# Altium footprint library NEW.PcbLib: 69 footprints (part 4 of 5)
Each footprint in its own frame and in the unit in brackets; x right, y up, seen from the top. Pads: shape width x height; smd on the part's side, far side on the other; paste and mask are expansions set on the pad; w line width, h text height; cw(c..) or ccw(c..) is an arc to the next point about the centre after c.
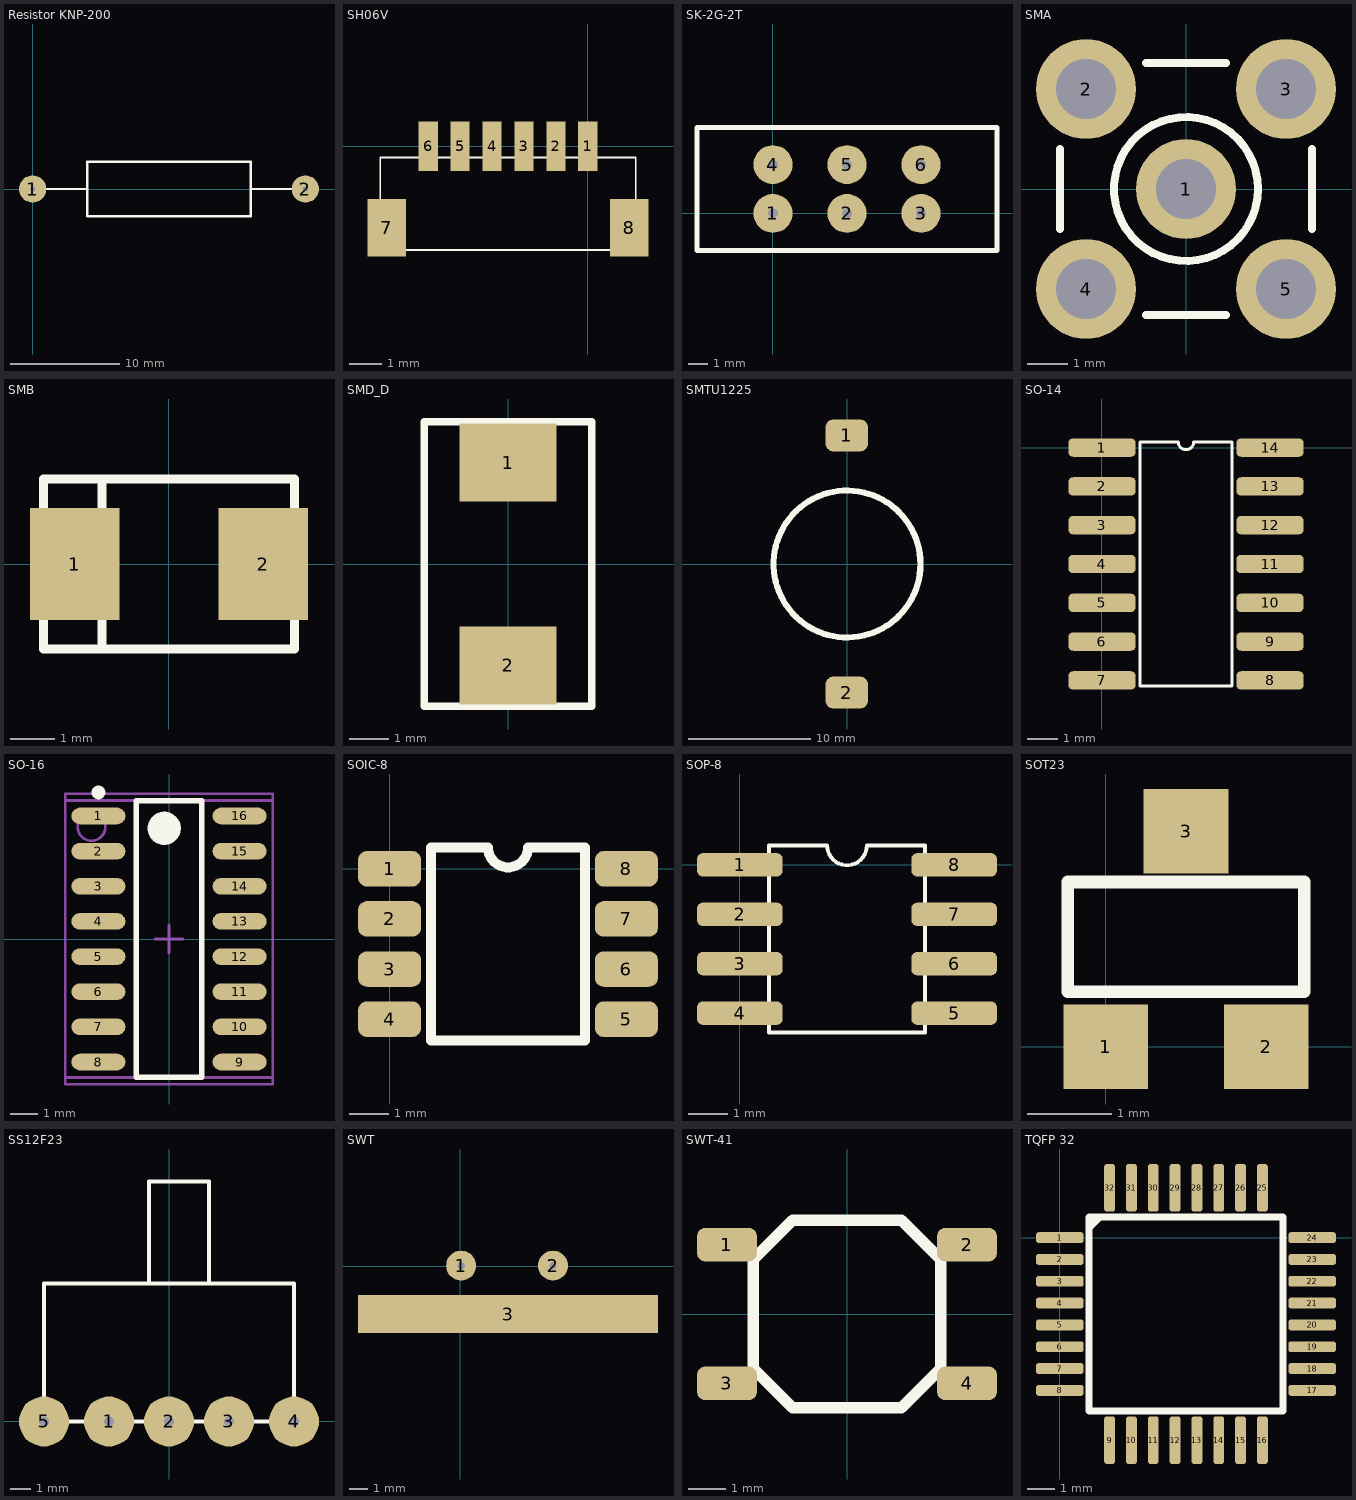
[diagram p3: the footprints below, top view; thin cyan lines are the x and y axes]

## Resistor KNP-200 [mm]
height 7
pads (2):
  round 2.5 hole 0.5 unplated: 1(0,0) 2(25,0)
Top Overlay:
  lines w0.2: 0,0 5,0 ; 20,0 25,0 ; 5,-2.5 5,2.5 20,2.5 20,-2.5 5,-2.5

## SH06V [mm]
pads (8):
  rect 0.6x1.55 smd: 1(0,0) 2(-1,0) 3(-2,0) 4(-3,0) 5(-4,0) 6(-5,0)
  rect 1.2x1.8 smd: 7(-6.3,-2.55) 8(1.3,-2.55)
Top Overlay:
  lines w0.05: -6.5,-3.25 1.5,-3.25 1.5,-0.35 -6.5,-0.35 -6.5,-3.25

## SK-2G-2T [mm]
pads (6):
  round 2 hole 0.5: 1(0,0) 2(3.8,0) 3(7.6,0) 4(0,2.5) 5(3.8,2.5) 6(7.6,2.5)
Top Overlay:
  lines w0.254: -3.9,-1.9 11.5,-1.9 11.5,4.4 -3.9,4.4 -3.9,-1.9

## SMA [mm]
pads (5):
  round 2.5 hole 1.5: 1(0,0) 2(-2.5,2.5) 3(2.5,2.5) 4(-2.5,-2.5) 5(2.5,-2.5)
Top Overlay:
  circle w0.2: c0,0 r1.8
  lines w0.2: -3.15,-1 -3.15,1 ; -1,-3.15 1,-3.15 ; -1,3.15 1,3.15 ; 3.15,-1 3.15,1
Mechanical 1:
  circle w0.025: c0,0 r0.2
  circle w0.025: c0,0 r1.05
  circle w0.025: c0,0 r1.8

## SMB [mm]
height 2.4
pads (2):
  rect 2x2.5 smd: 1(-2.1,0) 2(2.1,0)
Top Overlay:
  lines w0.2: -1.5,-1.9 -1.5,1.9 ; -2.8,-1.9 -2.8,1.9 2.8,1.9 2.8,-1.9 -2.8,-1.9

## SMD_D [mm]
height 2.8
pads (2):
  rect 2.5x2 smd: 1(0,2.6) 2(0,-2.6)
Top Overlay:
  lines w0.2: -2.15,-3.65 -2.15,3.65 2.15,3.65 2.15,0.65 2.15,-3.65 -2.15,-3.65

## SMTU1225 [mm]
pads (2):
  rrect50% 3.5x2.6 smd: 1(-0.02,10.5) 2(-0.02,-10.5)
Top Overlay:
  circle w0.5: c0,0 r6

## SO-14 [mm]
pads (14):
  rrect50% 2.2x0.6 smd: 1(0,0) 2(0,-1.27) 3(0,-2.54) 4(0,-3.81) 5(0,-5.08) 6(0,-6.35) 7(0,-7.62) 8(5.5,-7.62) 9(5.5,-6.35) 10(5.5,-5.08) 11(5.5,-3.81) 12(5.5,-2.54) 13(5.5,-1.27) 14(5.5,0)
Top Overlay:
  lines w0.1: 1.25,-7.81 4.25,-7.81 4.25,0.19 3.004,0.19 cw(c2.75,0.19) 2.496,0.19 1.25,0.19 1.25,-7.81

## SO-16 [mm]
height 1.75
pads (16):
  oval 1.95x0.6 smd: 1(-2.55,4.445) 2(-2.55,3.175) 3(-2.55,1.905) 4(-2.55,0.635) 5(-2.55,-0.635) 6(-2.55,-1.905) 7(-2.55,-3.175) 8(-2.55,-4.445) 9(2.55,-4.445) 10(2.55,-3.175) 11(2.55,-1.905) 12(2.55,-0.635) 13(2.55,0.635) 14(2.55,1.905) 15(2.55,3.175) 16(2.55,4.445)
Top Overlay:
  circle w0.6: c-0.175,4 r0.3
  circle w0.25: c-2.55,5.295 r0.125
  lines w0.2: -1.175,-5 1.175,-5 1.175,5 -1.175,5 -1.175,-5
Mechanical 13:
  circle w0.1: c-2.8,4.05 r0.5
  lines w0.1: -3.75,-5 3.75,-5 3.75,5 -3.75,5 -3.75,-5
Mechanical 15:
  lines w0.1: -0.5,0 0.5,0 ; 0,-0.5 0,0.5 ; -3.75,-5.25 3.75,-5.25 3.75,5.25 -3.75,5.25 -3.75,-5.25
3D body: height 1.75, standoff 0.1, extent -3.75,-5 3.75,5

## SOIC-8 [mm]
pads (8):
  rrect50% 1.6x0.9 smd: 1(0,0) 2(0,-1.27) 3(0,-2.54) 4(0,-3.81) 5(6,-3.81) 6(6,-2.54) 7(6,-1.27) 8(6,0)
Top Overlay:
  lines w0.254: 1.05,-4.355 4.95,-4.355 4.95,0.545 3.508,0.545 cw(c3,0.545) 2.492,0.545 1.05,0.545 1.05,-4.355

## SOP-8 [mm]
pads (8):
  rrect50% 2.2x0.6 smd: 1(0,0) 2(0,-1.27) 3(0,-2.54) 4(0,-3.81) 5(5.5,-3.81) 6(5.5,-2.54) 7(5.5,-1.27) 8(5.5,0)
Top Overlay:
  lines w0.1: 0.75,-4.305 4.75,-4.305 4.75,0.495 3.258,0.495 cw(c2.75,0.495) 2.242,0.495 0.75,0.495 0.75,-4.305

## SOT23 [mm]
pads (3):
  rect 1x1 smd: 1(0,0) 2(1.9,0) 3(0.95,2.55)
Top Overlay:
  lines w0.15: -0.45,0.65 2.35,0.65 2.35,1.95 -0.45,1.95 -0.45,0.65

## SS12F23 [mm]
height 5.8
pads (5):
  round 2.5 hole 0.5 unplated: 1(-3,0) 2(0,0) 3(3,0) 4(6.25,0) 5(-6.25,0)
Top Overlay:
  lines w0.2: -1,6.9 -1,12 2,12 2,6.9 ; -6.25,0 -6.25,6.9 6.25,6.9 6.25,0 -6.25,0

## SWT [mm]
pads (3):
  round 1.6 hole 0.4: 1(0.04,0.04) 2(4.94,0.04)
  rect 16x2 smd: 3(2.54,-2.54)

## SWT-41 [mm]
pads (4):
  rrect50% 1.6x0.9 smd: 1(-3.2,1.85) 2(3.2,1.85) 3(-3.2,-1.85) 4(3.2,-1.85)
Top Overlay:
  lines w0.3: -2.5,-1.45 -1.45,-2.5 1.45,-2.5 2.5,-1.45 2.5,1.45 1.45,2.5 -1.45,2.5 -2.5,1.45 -2.5,-1.45

## TQFP 32 [mm]
pads (32):
  rrect50% 1.75x0.4 smd: 1(0,0) 2(0,-0.8) 3(0,-1.6) 4(0,-2.4) 5(0,-3.2) 6(0,-4) 7(0,-4.8) 8(0,-5.6) 17(9.25,-5.6) 18(9.25,-4.8) 19(9.25,-4) 20(9.25,-3.2) 21(9.25,-2.4) 22(9.25,-1.6) 23(9.25,-0.8) 24(9.25,0)
  rrect50% 0.4x1.75 smd: 9(1.825,-7.425) 10(2.625,-7.425) 11(3.425,-7.425) 12(4.225,-7.425) 13(5.025,-7.425) 14(5.825,-7.425) 15(6.625,-7.425) 16(7.425,-7.425) 25(7.425,1.825) 26(6.625,1.825) 27(5.825,1.825) 28(5.025,1.825) 29(4.225,1.825) 30(3.425,1.825) 31(2.625,1.825) 32(1.825,1.825)
Top Overlay:
  lines w0.254: 1.075,0.35 1.475,0.75 ; 1.075,-6.35 8.175,-6.35 8.175,0.75 1.075,0.75 1.075,-6.35